# Altium footprint library Crystals.PcbLib: 8 footprints
Each footprint in its own frame and in the unit in brackets; x right, y up, seen from the top. Pads: shape width x height; smd on the part's side, far side on the other; paste and mask are expansions set on the pad; w line width, h text height; cw(c..) or ccw(c..) is an arc to the next point about the centre after c.
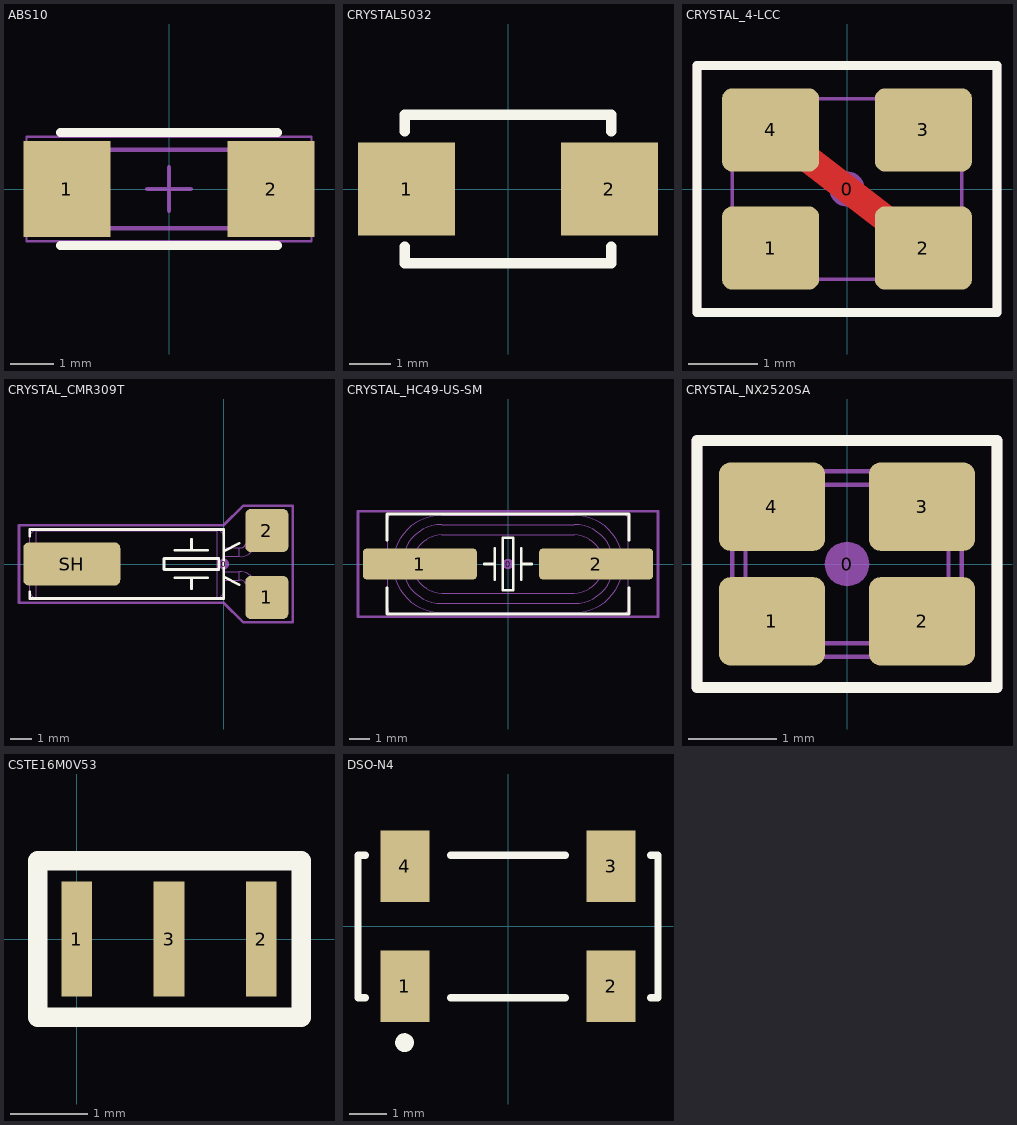
[diagram p0: the footprints below, top view; thin cyan lines are the x and y axes]

## ABS10 [mm] "Molded Capacitor, 2-Leads, Body 4,90x1,80mm, IPC Medium Density"
height 1
pads (2):
  rect 2x2.2 smd: 1(-2.35,0) 2(2.35,0)
Top Overlay:
  lines w0.2: -2.5,-1.3 2.5,-1.3 ; -2.5,1.3 2.5,1.3
Mechanical 13:
  lines w0.1: -2.45,-0.9 -2.45,0.9 2.45,0.9 2.45,-0.9 -2.45,-0.9
Mechanical 15:
  lines w0.05: -3.275,-1.2 -3.275,1.2 3.275,1.2 3.275,-1.2 -3.275,-1.2
  lines w0.1: -0.5,0 0.5,0 ; 0,-0.5 0,0.5
3D body "User Library-ASB 10.step": height 1, standoff 0, extent -2.45,-0.9 2.45,0.9

## CRYSTAL5032 [mm]
height 5.08
pads (2):
  rect 2.35x2.25 smd: 1(-2.45,0) 2(2.45,0)
Top Overlay:
  lines w0.254: -2.5,-1.4 -2.5,-1.8 2.5,-1.8 2.5,-1.4 ; -2.5,1.4 -2.5,1.8 2.5,1.8 2.5,1.4
3D body "User Library-ABM3.STEP": height 1.3, standoff 0, extent -2.6,-1.7 2.6,1.7

## CRYSTAL_4-LCC [mm] "SMD Crystal 4-lead leadless package"
height 0.8
pads (5):
  round 0.508 on Mech15: 0(0,0)
  rrect25% 1.4x1.2 smd: 1(-1.1,-0.85) 2(1.1,-0.85) 3(1.1,0.85) 4(-1.1,0.85)
Top Layer:
  lines w0.4: -1.1,0.85 1.1,-0.85
Top Overlay:
  lines w0.127: -2.159,-1.778 -2.159,1.778 2.159,1.778 2.159,-1.778 -2.159,-1.778
Mechanical 13:
  lines w0.05: -1.65,-1.143 -1.493,-1.3 1.493,-1.3 1.65,-1.143 1.65,1.144 1.494,1.3 -1.493,1.3 -1.65,1.143 -1.65,-1.143
Mechanical 15:
  lines w0.127: -2.159,-1.778 2.159,-1.778 2.159,1.778 -2.159,1.778 -2.159,-1.778
3D body "Crystal TXC Corp 7M series.STEP": height 0.8, standoff 0, extent -1.65,-1.3 1.65,1.3

## CRYSTAL_CMR309T [mm] "SMD Crystal CMR309T package"
height 3.1
pads (4):
  round 0.508 on Mech15: 0(0,0)
  rrect25% 2x2 smd: 1(2,-1.55) 2(2,1.55)
  rrect25% 4.5x2 smd: SH(-7.05,0)
Top Overlay:
  lines w0.127: -9,-1.3 -9,-1.6 0,-1.6 0,-0.6 ; -9,1.3 -9,1.6 0,1.6 0,0.6 ; -2.262,-0.635 -0.738,-0.635 ; -2.262,0.635 -0.738,0.635 ; -1.5,-1.143 -1.5,-0.635 ; -1.5,0.635 -1.5,1.143 ; 0.72,-0.96 0,-0.6 ; 0.72,0.96 0,0.6 ; 0,-0.6 0,0.6 ; -2.77,-0.254 -0.23,-0.254 -0.23,0.254 -2.77,0.254 -2.77,-0.254
Mechanical 13:
  lines w0.05: 0,-0.75 0.71,-0.75 ; 0,-0.35 0.71,-0.35 ; 0,0.35 0.71,0.35 ; 0,0.75 0.71,0.75 ; 0.931,-0.79 0.937,-0.798 0.965,-0.823 0.999,-0.84 1.037,-0.85 1.077,-0.851 1.118,-0.843 1.158,-0.828 1.195,-0.805 1.226,-0.776 1.252,-0.741 1.27,-0.704 1.279,-0.664 1.28,-0.625 1.271,-0.588 1.255,-0.555 1.25,-0.548 ; 0.931,0.79 0.937,0.798 0.965,0.823 0.999,0.84 1.037,0.85 1.077,0.851 1.118,0.843 1.158,0.828 1.195,0.805 1.226,0.776 1.252,0.741 1.27,0.704 1.279,0.664 1.28,0.625 1.271,0.588 1.255,0.555 1.25,0.548 ; -8.7,-1.55 cw(c-8.7,-1.25) -9,-1.25 -9,1.25 cw(c-8.7,1.25) -8.7,1.55 ; -8.7,-1.55 -8.7,1.55 ; -8.7,-1.55 -0.3,-1.55 ; -8.7,1.55 -0.3,1.55 ; -0.3,-1.55 ccw(c-0.3,-1.25) 0,-1.25 0,1.25 ccw(c-0.3,1.25) -0.3,1.55 ; -0.3,-1.55 -0.3,1.55 ; 0.71,-0.75 cw(c0.741,-1.171) 0.936,-0.796 1.229,-1.183 ; 0.71,-0.75 0.71,-0.35 ; 0.71,-0.35 cw(c0.757,-1.055) 1.25,-0.548 ; 0.71,0.35 ccw(c0.775,1.007) 1.25,0.548 ; 0.71,0.35 0.71,0.75 ; 0.71,0.75 0.73,0.75 0.773,0.753 0.814,0.758 0.851,0.765 0.881,0.773 0.906,0.781 0.923,0.789 0.933,0.794 0.937,0.797 ; 0.937,0.797 1.229,1.183 ; 0.937,0.797 0.937,0.797 ; 1.229,-1.183 ccw(c2.616,-0.029) 1.491,-1.439 ; 1.229,-1.183 1.236,-1.191 1.263,-1.216 1.297,-1.234 1.335,-1.243 1.376,-1.244 1.417,-1.237 1.456,-1.221 1.493,-1.198 1.525,-1.169 1.55,-1.135 1.568,-1.097 1.577,-1.058 1.578,-1.019 1.569,-0.982 1.553,-0.948 1.548,-0.942 ; 1.229,1.183 cw(c2.589,0.057) 1.491,1.439 ; 1.229,1.183 1.236,1.191 1.263,1.216 1.297,1.234 1.335,1.243 1.376,1.244 1.417,1.237 1.456,1.221 1.493,1.198 1.525,1.169 1.55,1.135 1.568,1.097 1.577,1.058 1.578,1.019 1.569,0.982 1.553,0.948 1.548,0.942 ; 1.25,-0.548 1.548,-0.942 ; 1.25,0.548 1.548,0.942 ; 1.491,-1.439 ccw(c0.753,-0.568) 1.746,-1.132 ; 1.491,-1.439 2.472,-2.254 ccw(c1.735,-1.382) 2.728,-1.946 1.746,-1.132 ; 1.491,1.439 cw(c0.753,0.568) 1.746,1.132 ; 1.491,1.439 2.472,2.254 cw(c1.735,1.382) 2.728,1.946 1.746,1.132 ; 1.548,-0.942 ccw(c2.638,-0.003) 1.746,-1.132 ; 1.548,0.942 cw(c2.604,0.039) 1.746,1.132
Mechanical 15:
  lines w0.127: -9.5,-1.8 0,-1.8 0.9,-2.7 3.2,-2.7 3.2,2.7 0.9,2.7 0,1.8 -9.5,1.8 -9.5,-1.8
3D body "Crystal CMR309T.STEP": height 3.07, standoff -0.01, extent -9,-2.254 2.728,2.254

## CRYSTAL_HC49-US-SM [mm] "SMD Crystal HC49/US-SM package"
height 4.3
pads (3):
  round 0.508 on Mech15: 0(0,0)
  rrect25% 5.5x1.5 smd: 1(-4.25,0) 2(4.25,0)
Top Overlay:
  lines w0.127: -5.842,-1.143 -5.842,-2.413 5.842,-2.413 5.842,-1.143 ; -5.842,1.143 -5.842,2.413 5.842,2.413 5.842,1.143 ; -1.143,0 -0.635,0 ; -0.635,-0.762 -0.635,0.762 ; 0.635,-0.762 0.635,0.762 ; 0.635,0 1.143,0 ; -0.254,-1.27 -0.254,1.27 0.254,1.27 0.254,-1.27 -0.254,-1.27
Mechanical 13:
  lines w0.05: -5.8,-0.45 -6.4,-0.45 -6.4,0.45 -5.8,0.45 ; 5.8,-0.45 6.4,-0.45 6.4,0.45 5.8,0.45 ; -5.8,-2.165 ccw(c-5.55,-2.165) -5.55,-2.415 5.55,-2.415 ccw(c5.55,-2.165) 5.8,-2.165 5.8,2.165 ccw(c5.55,2.165) 5.55,2.415 -5.55,2.415 ccw(c-5.55,2.165) -5.8,2.165 -5.8,-2.165 ; -3.2,-2.35 cw(c-3.2,0) -3.2,2.35 3.2,2.35 cw(c3.2,0) 3.2,-2.35 -3.2,-2.35 ; -3.2,-1.9 cw(c-3.2,0) -3.2,1.9 3.2,1.9 cw(c3.2,0) 3.2,-1.9 -3.2,-1.9 ; -3.2,-1.4 cw(c-3.2,0) -3.2,1.4 3.2,1.4 cw(c3.2,0) 3.2,-1.4 -3.2,-1.4
Mechanical 15:
  lines w0.127: -7.239,-2.54 -7.239,2.54 7.239,2.54 7.239,-2.54 -7.239,-2.54
3D body "Crystal HC49_US-SM.STEP": height 4.29, standoff -0.01, extent -6.4,-2.415 6.4,2.415

## CRYSTAL_NX2520SA [mm] "SMD Crystal 4-lead leadless package"
height 0.55
pads (5):
  round 0.508 on Mech15: 0(0,0)
  rrect25% 1.2x1 smd mask+0.075: 1(-0.85,-0.65) 2(0.85,-0.65) 3(0.85,0.65) 4(-0.85,0.65)
Top Overlay:
  lines w0.127: -1.7,-1.4 -1.7,1.4 1.7,1.4 1.7,-1.4 -1.7,-1.4
Mechanical 13:
  lines w0.05: -1.3,-0.87 cw(c-1.3,-1.05) -1.12,-1.05 1.12,-1.05 cw(c1.3,-1.05) 1.3,-0.87 1.3,0.87 cw(c1.3,1.05) 1.12,1.05 -1.12,1.05 cw(c-1.3,1.05) -1.3,0.87 -1.3,-0.87 ; -1.15,-0.75 ccw(c-1,-0.75) -1,-0.9 1,-0.9 ccw(c1,-0.75) 1.15,-0.75 1.15,0.75 ccw(c1,0.75) 1,0.9 -1,0.9 ccw(c-1,0.75) -1.15,0.75 -1.15,-0.75
Mechanical 15:
  lines w0.127: -1.7,-1.4 1.7,-1.4 1.7,1.4 -1.7,1.4 -1.7,-1.4
3D body "Crystal NDK NX2520SA series.STEP": height 0.55, standoff 0, extent -1.3,-1.05 1.3,1.05

## CSTE16M0V53 [mm]
pads (3):
  rect 0.4x1.5 smd: 1(0,0) 2(2.4,0) 3(1.2,0)
Top Overlay:
  lines w0.254: -0.508,-1.016 2.921,-1.016 2.921,1.016 -0.508,1.016 -0.508,-1.016

## DSO-N4 [mm] "Crystal, SM; 4 Leads; Body 8 x 3.8 x 2.5 mm (LxWxH)"
height 2.5
pads (4):
  rect 1.3x1.9 smd: 1(-2.75,-1.6) 2(2.75,-1.6) 3(2.75,1.6) 4(-2.75,1.6)
Top Overlay:
  circle w0.25: c-2.76,-3.1 r0.125
  lines w0.2: -3.8,-1.9 -4,-1.9 -4,1.9 -3.8,1.9 ; -1.524,-1.9 1.524,-1.9 ; -1.524,1.9 1.524,1.9 ; 3.8,-1.9 4,-1.9 4,1.9 3.8,1.9
3D body "User Library-ZM206.step": height 2.5, standoff -0.03, extent -4,-1.9 4,1.9